# Altium footprint library ModulebitV0_41.PcbLib: 31 footprints (part 1 of 2)
Each footprint in its own frame and in the unit in brackets; x right, y up, seen from the top. Pads: shape width x height; smd on the part's side, far side on the other; paste and mask are expansions set on the pad; w line width, h text height; cw(c..) or ccw(c..) is an arc to the next point about the centre after c.
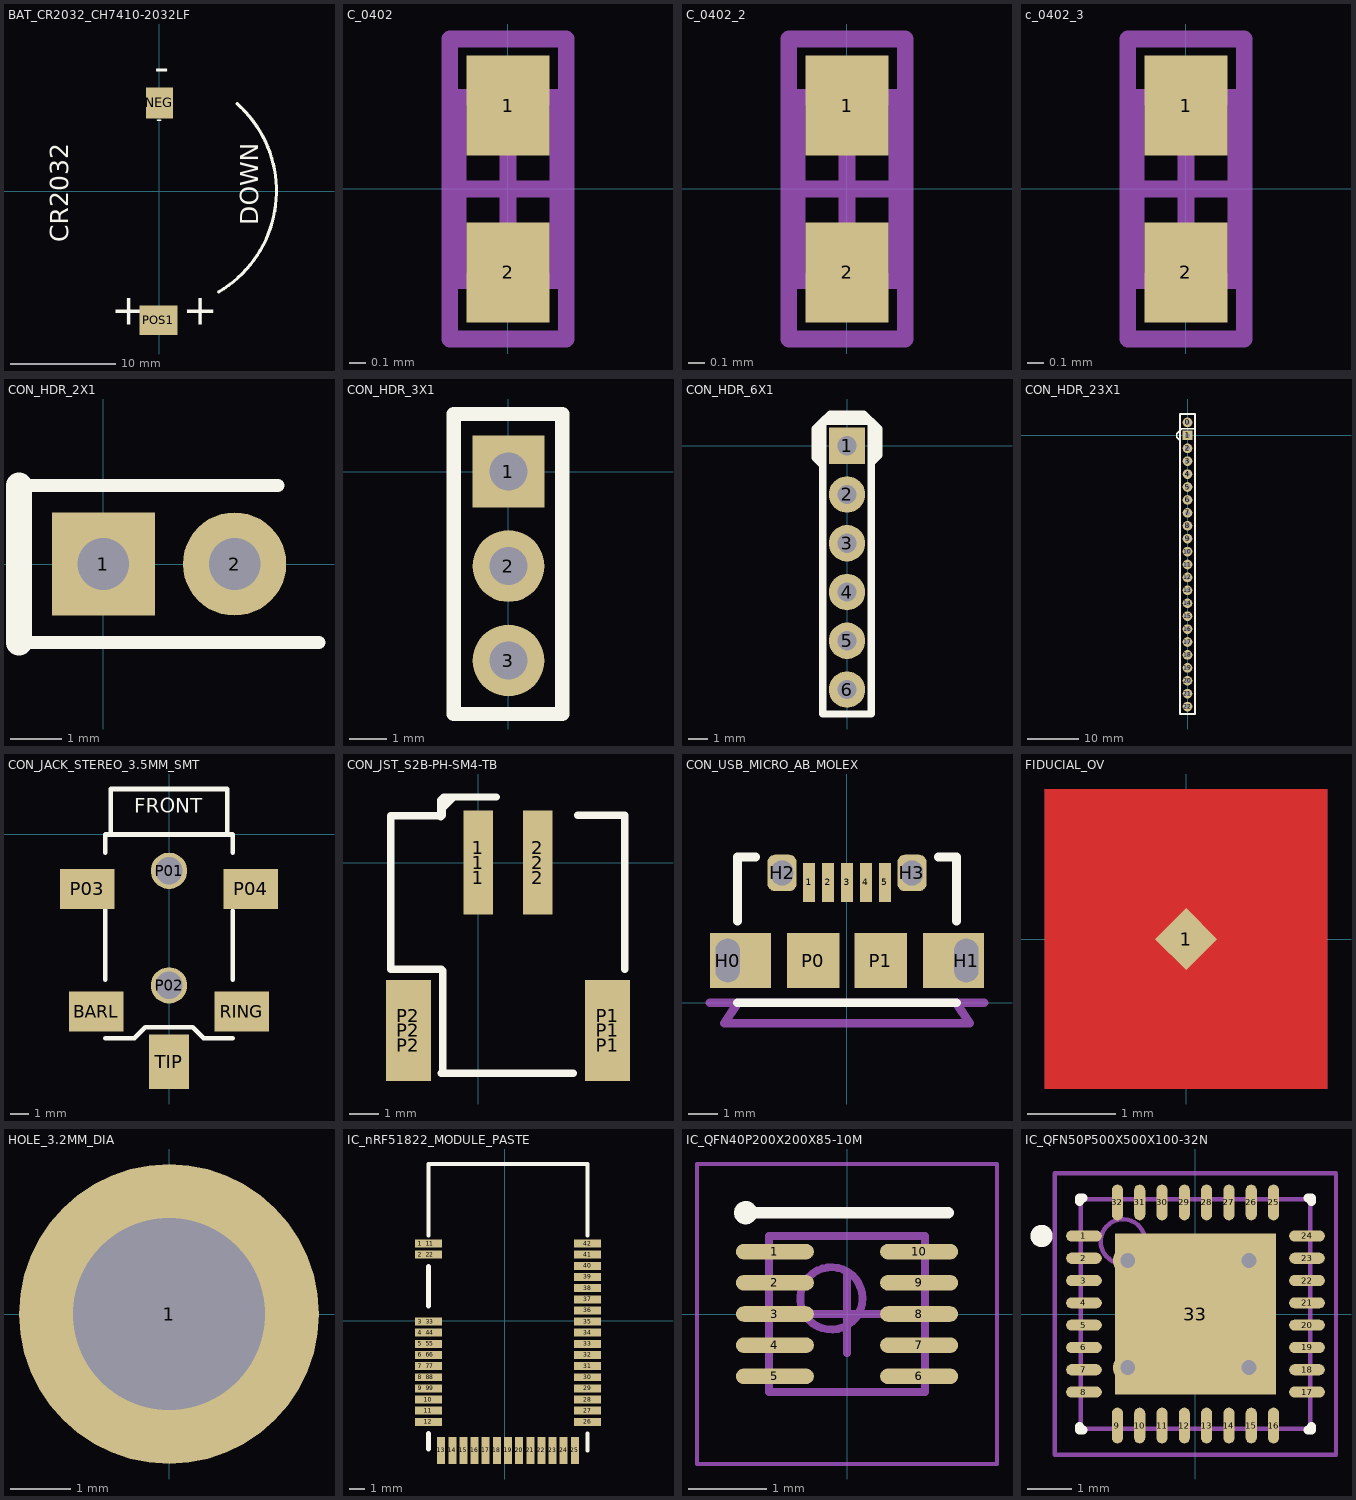
[diagram p0: the footprints below, top view; thin cyan lines are the x and y axes]

## BAT_CR2032_CH7410-2032LF [mm]
pads (2):
  rect 2.6x3 smd paste-2: NEG(0,8.4)
  rect 3.6x2.8 smd: POS1(-0.1,-12.3)
Top Overlay:
  lines w0.305: 5.649,-9.613 ccw(c0,0) 7.383,8.355
  text "-" at -0.3,5.9 h2
  text "+" at 2.2,-13.7 h5
  text "-" at -0.5,9.5 h5
  text "+" at -4.6,-13.7 h5
  text "CR2032" at -8.1,-4.9 h3
  text "DOWN" at 9.97,-3.234 h3
3D body "User Library-bat_holder_ch7410_2032.STEP": height 5.4, standoff 0, extent -8,-13.4 8,10.852

## C_0402 [mm]
pads (2):
  rect 0.5x0.6 smd: 1(0,0.5) 2(0,-0.5)
Mechanical 13:
  lines w0.1: -0.3,-0.55 -0.3,0.55 0.3,0.55 0.3,-0.55 -0.3,-0.55
Mechanical 15:
  lines w0.1: -0.3,0 0.3,0 ; 0,-0.3 0,0.3 ; -0.35,-0.9 -0.35,0.9 0.35,0.9 0.35,-0.9 -0.35,-0.9
3D body "User Library-0402C.step": height 0.36, standoff 0, extent -0.265,-0.5 0.265,0.5

## C_0402_2 [mm]
pads (2):
  rect 0.5x0.6 smd: 1(0,0.5) 2(0,-0.5)
Mechanical 13:
  lines w0.1: -0.3,-0.55 -0.3,0.55 0.3,0.55 0.3,-0.55 -0.3,-0.55
Mechanical 15:
  lines w0.1: -0.3,0 0.3,0 ; 0,-0.3 0,0.3 ; -0.35,-0.9 -0.35,0.9 0.35,0.9 0.35,-0.9 -0.35,-0.9
3D body "User Library-0402C.step": height 0.36, standoff 0, extent -0.265,-0.5 0.265,0.5

## c_0402_3 [mm]
pads (2):
  rect 0.5x0.6 smd: 1(0,0.5) 2(0,-0.5)
Mechanical 13:
  lines w0.1: -0.3,-0.55 0.3,-0.55 0.3,0.55 -0.3,0.55 -0.3,-0.55
Mechanical 15:
  lines w0.1: -0.3,0 0.3,0 ; 0,-0.3 0,0.3 ; -0.35,-0.9 0.35,-0.9 0.35,0.9 -0.35,0.9 -0.35,-0.9
3D body "User Library-0402C.step": height 0.36, standoff 0, extent -0.265,-0.5 0.265,0.5

## CON_HDR_2X1 [mm]
pads (2):
  rect 2x2 hole 1: 1(0,0)
  round 2 hole 1: 2(2.54,0)
Top Overlay:
  lines w0.254: -1.635,-1.524 4.175,-1.524 ; -1.635,1.524 3.378,1.524
  lines w0.5: -1.635,-1.524 -1.635,1.524
3D body "1x2HDR.stp": height 8.41, standoff -2.52, extent -1.27,-1.268 3.81,1.272

## CON_HDR_3X1 [mm]
pads (3):
  rect 1.9x1.9 hole 1: 1(0,0)
  round 1.9 hole 1: 2(0,-2.498) 3(0,-4.995)
Top Overlay:
  lines w0.381: -1.448,-6.409 -1.448,1.524 1.422,1.524 1.422,-6.409 -1.448,-6.409
3D body "1x2HDR.stp": height 8.41, standoff -2.52, extent -1.268,-6.35 1.272,-1.27
3D body "1x2HDR.stp": height 8.41, standoff -2.52, extent -1.268,-3.81 1.272,1.27

## CON_HDR_6X1 [mm]
pads (6):
  rect 1.9x1.9 hole 1: 1(0,0)
  round 1.9 hole 1: 2(0,-2.54) 3(0,-5.08) 4(0,-7.62) 5(0,-10.16) 6(0,-12.7)
Top Overlay:
  lines w0.381: -1.27,-1.016 -1.651,-0.635 -1.651,0.889 -1.27,1.27 ; 1.27,-0.889 1.651,-0.508 1.651,0.889 0.889,1.651 -0.889,1.651 -1.27,1.27 ; -1.27,1.27 1.27,1.27 1.27,-13.97 -1.27,-13.97 -1.27,1.27
3D body "1x2HDR.stp": height 8.41, standoff -2.52, extent -1.268,-13.928 1.272,-8.848
3D body "1x2HDR.stp": height 8.41, standoff -2.52, extent -1.268,-8.89 1.272,-3.81
3D body "1x2HDR.stp": height 8.41, standoff -2.52, extent -1.268,-3.81 1.272,1.27

## CON_HDR_23X1 [mm]
pads (23):
  round 1.9 hole 1: 0(0,2.54) 2(0,-2.54) 3(0,-5.08) 4(0,-7.62) 5(0,-10.16) 6(0,-12.7) 7(0,-15.24) 8(0,-17.78) 9(0,-20.32) 10(0,-22.86) 11(0,-25.4) 12(0,-27.94) 13(0,-30.48) 14(0,-33.02) 15(0,-35.56) 16(0,-38.1) 17(0,-40.64) 18(0,-43.18) 19(0,-45.72) 20(0,-48.26) 21(0,-50.8) 22(0,-53.34)
  rect 1.9x1.9 hole 1: 1(0,0)
Top Overlay:
  lines w0.254: -1.4,-1.1 -2.1,-0.4 -2.1,0.3 -1.1,1.3 0.7,1.3 1.3,1.3
  lines w0.381: -1.5,-49.72 -1.5,-29.996 ; -1.5,-54.8 -1.5,-9.676 -1.5,4.2 1.5,4.2 1.5,-54.8 -1.5,-54.8
3D body "1x2HDR.stp": height 8.41, standoff -2.52, extent -1.268,-1.27 1.272,3.81
3D body "1x2HDR.stp": height 8.41, standoff -2.52, extent -1.268,-54.61 1.272,-49.53
3D body "1x2HDR.stp": height 8.41, standoff -2.52, extent -1.268,-3.81 1.272,1.27
3D body "1x2HDR.stp": height 8.41, standoff -2.52, extent -1.268,-8.89 1.272,-3.81
3D body "1x2HDR.stp": height 8.41, standoff -2.52, extent -1.27,-13.97 1.27,-8.89
3D body "1x2HDR.stp": height 8.41, standoff -2.52, extent -1.268,-19.05 1.272,-13.97
3D body "1x2HDR.stp": height 8.41, standoff -2.52, extent -1.268,-24.13 1.272,-19.05
3D body "1x2HDR.stp": height 8.41, standoff -2.52, extent -1.268,-29.21 1.272,-24.13
3D body "1x2HDR.stp": height 8.41, standoff -2.52, extent -1.268,-49.53 1.272,-44.45
3D body "1x2HDR.stp": height 8.41, standoff -2.52, extent -1.268,-44.45 1.272,-39.37
3D body "1x2HDR.stp": height 8.41, standoff -2.52, extent -1.268,-39.37 1.272,-34.29
3D body "1x2HDR.stp": height 8.41, standoff -2.52, extent -1.27,-34.29 1.27,-29.21

## CON_JACK_STEREO_3.5MM_SMT [mm]
pads (7):
  rect 3x2.2 smd: BARL(-4,-9.75) P03(-4.5,-3) P04(4.5,-3) RING(4,-9.75)
  round 2 hole 1.5: P01(0,-2) P02(0,-8.3)
  rect 2.2x3 smd: TIP(0,-12.5)
Top Overlay:
  lines w0.254: -3.5,-11.2 -1.9,-11.2 -1.3,-10.6 1.3,-10.6 1.9,-11.2 3.5,-11.2 ; -3.5,-8 -3.5,-3.9 ; -3.5,-1 -3.5,0 3.5,0 3.5,-1 ; -3.2,0 -3.2,2.5 3.2,2.5 3.2,0 ; 3.5,-8 3.5,-4.2
  text "FRONT" at -1.9,1.2 h0.8
3D body: height 5.99, standoff 0.01, extent -2.976,-0.2 3,2.5
3D body: height 4.75, standoff 1.25, extent -1.65,-0.225 1.836,2.675
3D body: height 6, standoff 0, extent -3.5,-11 3.5,0
3D body "Lumberg_1503_03.stp": height 6, standoff -1.2, extent -5.1,-13.3 5.1,2.7

## CON_JST_S2B-PH-SM4-TB [mm]
pads (12):
  oval 1x2 smd: 1(0,-0.5) 1(0,0.5) 2(2,-0.5) 2(2,0.5)
  rect 1x3.5 smd: 1(0,0) 2(2,0)
  oval 1.5x2 smd: P1(4.35,-6.15) P1(4.35,-5.15) P2(-2.35,-6.15) P2(-2.35,-5.15)
  rect 1.5x3.4 smd: P1(4.35,-5.65) P2(-2.35,-5.65)
Top Overlay:
  lines w0.25: -2.896,-3.581 -1.245,-3.581 -1.194,-3.632 -1.194,-7.036 ; -1.27,1.549 -1.27,2.108 -1.168,2.21 0.61,2.21 ; -1.219,1.6 -1.219,1.829 -0.864,2.184
  lines w0.254: -2.946,-3.581 -2.946,1.575 -1.321,1.575 ; -1.245,-7.087 3.2,-7.087 ; 3.353,1.6 4.928,1.6 4.928,-3.581
3D body "S2B-PH-SM4-TB.STEP": height 5.5, standoff -0.1, extent -2.972,-7.043 4.928,1.557

## CON_USB_MICRO_AB_MOLEX [mm]
pads (11):
  rect 0.4x1.35 smd: 1(-1.3,4.125) 2(-0.65,4.125) 3(0,4.125) 4(0.65,4.125) 5(1.3,4.125)
  rect 2.1x1.9 hole 0.83 slot 1.5 at 90 deg copper offset 0.44,0: H0(-4.09,1.45)
  rect 2.1x1.9 hole 0.83 slot 1.5 at 90 deg copper offset -0.44,0: H1(4.09,1.45)
  rrect50% 1x1.25 / inner rrect50% 1.15x1.25 / far side rrect50% 1.15x1.25 hole 0.75 slot 0.85 at 90 deg: H2(-2.225,4.45) H3(2.225,4.45)
  rect 1.8x1.9 smd: P0(-1.15,1.45) P1(1.15,1.45)
Top Overlay:
  lines w0.3: -3.75,0 3.75,0 ; -3.75,2.8 -3.75,5 -3.125,5 ; 3.125,5 3.75,5 3.75,2.8
Top Paste:
  rectangle: 2.6,0.5 3.7,2.4
  rectangle: -3.7,0.5 -2.6,2.4
Mechanical 1:
  lines w0.3: -4.7,0 4.7,0 ; -4.2,-0.7 4.2,-0.7 3.75,0 -3.75,0 -4.2,-0.7
  text "Overhang" at -1.5,-0.45 h0.3
3D body "475890001.stp": height 2.76, standoff -0.55, extent -4.35,-1.175 4.3,4.719

## FIDUCIAL_OV [mm]
pads (1):
  rect 0.5x0.5 smd rot 45 paste-1 mask+0.2: 1(0,0)
Top Layer:
  pour cut-out: -1.6,-0.1 -1.6,-1.7 1.6,-1.7 1.6,1.7 -1.6,1.7
  pour cut-out: 153 vertices and 0 holes, not listed, extent -1,-1 1,1
Bottom Layer:
  pour cut-out: -1.6,-0.1 -1.6,-1.7 1.6,-1.7 1.6,1.7 -1.6,1.7
Top Solder:
  region: -1.6,1.7 1.6,1.7 1.6,-1.7 -1.6,-1.7

## HOLE_3.2MM_DIA [mm]
pads (1):
  round 5 hole 3.2: 1(0,0)

## IC_nRF51822_MODULE_PASTE [mm]
pads (126):
  round 0.5 smd: 1(-5.291,4.849) 1(-4.591,4.849) 2(-5.291,4.149) 2(-4.591,4.149) 3(-5.291,-0.051) 3(-4.591,-0.051) 4(-5.291,-0.751) 4(-4.591,-0.751) 5(-5.291,-1.451) 5(-4.591,-1.451) 6(-5.291,-2.151) 6(-4.591,-2.151) 7(-5.291,-2.851) 7(-4.591,-2.851) 8(-5.291,-3.551) 8(-4.591,-3.551) 9(-5.291,-4.251) 9(-4.591,-4.251) 10(-5.291,-4.951) 10(-4.591,-4.951) 11(-5.291,-5.651) 11(-4.591,-5.651) 12(-5.291,-6.351) 12(-4.591,-6.351) 13(-3.991,-8.651) 13(-3.991,-7.851) 14(-3.291,-8.651) 14(-3.291,-7.851) 15(-2.591,-8.651) 15(-2.591,-7.851) 16(-1.891,-7.851) 16(-1.891,-8.651) 17(-1.191,-8.651) 17(-1.191,-7.851) 18(-0.491,-8.651) 18(-0.491,-7.851) 19(0.209,-8.651) 19(0.209,-7.851) 20(0.909,-8.651) 20(0.909,-7.851) 21(1.609,-7.851) 21(1.609,-8.651) 22(2.309,-8.651) 22(2.309,-7.851) 23(3.009,-8.651) 23(3.009,-7.851) 24(3.709,-7.851) 24(3.709,-8.651) 25(4.409,-8.651) 25(4.409,-7.851) 26(5.009,-6.351) 26(5.709,-6.351) 27(5.009,-5.651) 27(5.709,-5.651) 28(5.009,-4.951) 28(5.709,-4.951) 29(5.009,-4.251) 29(5.709,-4.251) 30(5.009,-3.551) 30(5.709,-3.551) 31(5.009,-2.851) 31(5.709,-2.851) 32(5.009,-2.151) 32(5.709,-2.151) 33(5.009,-1.451) 33(5.709,-1.451) 34(5.009,-0.751) 34(5.709,-0.751) 35(5.009,-0.051) 35(5.709,-0.051) 36(5.009,0.649) 36(5.709,0.649) 37(5.009,1.349) 37(5.709,1.349) 38(5.009,2.049) 38(5.709,2.049) 39(5.009,2.749) 39(5.709,2.749) 40(5.009,3.449) 40(5.709,3.449) 41(5.009,4.149) 41(5.709,4.149) 42(5.009,4.849) 42(5.709,4.849)
  rect 1.7x0.5 smd: 1(-4.791,4.849) 2(-4.791,4.149) 3(-4.791,-0.051) 4(-4.791,-0.751) 5(-4.791,-1.451) 6(-4.791,-2.151) 7(-4.791,-2.851) 8(-4.791,-3.551) 9(-4.791,-4.251) 10(-4.791,-4.951) 11(-4.791,-5.651) 12(-4.791,-6.351) 26(5.209,-6.351) 27(5.209,-5.651) 28(5.209,-4.951) 29(5.209,-4.251) 30(5.209,-3.551) 31(5.209,-2.851) 32(5.209,-2.151) 33(5.209,-1.451) 34(5.209,-0.751) 35(5.209,-0.051) 36(5.209,0.649) 37(5.209,1.349) 38(5.209,2.049) 39(5.209,2.749) 40(5.209,3.449) 41(5.209,4.149) 42(5.209,4.849)
  rect 0.5x1.7 smd: 13(-3.991,-8.151) 14(-3.291,-8.151) 15(-2.591,-8.151) 16(-1.891,-8.151) 17(-1.191,-8.151) 18(-0.491,-8.151) 19(0.209,-8.151) 20(0.909,-8.151) 21(1.609,-8.151) 22(2.309,-8.151) 23(3.009,-8.151) 24(3.709,-8.151) 25(4.409,-8.151)
Top Overlay:
  lines w0.254: -4.791,5.349 -4.791,9.849 5.21,9.849 5.21,5.349 ; 5.21,-8.151 5.21,-7.076
  lines w0.305: -4.791,-8.076 -4.791,-7.076 ; -4.791,0.924 -4.791,3.424
3D body "Raytac-MDBT40.step": height 3.2, standoff 0, extent -4.891,-8.176 5.109,9.824

## IC_QFN40P200X200X85-10M [mm]
pads (10):
  oval 1x0.2 smd: 1(-0.925,0.8) 2(-0.925,0.4) 3(-0.925,0) 4(-0.925,-0.4) 5(-0.925,-0.8) 6(0.925,-0.8) 7(0.925,-0.4) 8(0.925,0) 9(0.925,0.4) 10(0.925,0.8)
Top Overlay:
  circle w0.1: c-1.3,1.3 r0.1
  lines w0.152: -1.3,1.3 1.3,1.3
Mechanical 13:
  circle w0.1: c-0.2,0.2 r0.4
  lines w0.1: -1,-1 1,-1 1,1 -1,1 -1,-1
Mechanical 15:
  lines w0.05: -1.925,-1.925 1.925,-1.925 1.925,1.925 -1.925,1.925 -1.925,-1.925
  lines w0.1: -0.5,0 0.5,0 ; 0,-0.5 0,0.5
3D body: height 0.85, standoff 0.02, extent -1,-1 1,1

## IC_QFN50P500X500X100-32N [mm]
pads (33):
  oval 0.8x0.25 smd: 1(-2.5,1.75) 2(-2.5,1.25) 3(-2.5,0.75) 4(-2.5,0.25) 5(-2.5,-0.25) 6(-2.5,-0.75) 7(-2.5,-1.25) 8(-2.5,-1.75) 17(2.5,-1.75) 18(2.5,-1.25) 19(2.5,-0.75) 20(2.5,-0.25) 21(2.5,0.25) 22(2.5,0.75) 23(2.5,1.25) 24(2.5,1.75)
  oval 0.25x0.8 smd: 9(-1.75,-2.5) 10(-1.25,-2.5) 11(-0.75,-2.5) 12(-0.25,-2.5) 13(0.25,-2.5) 14(0.75,-2.5) 15(1.25,-2.5) 16(1.75,-2.5) 25(1.75,2.5) 26(1.25,2.5) 27(0.75,2.5) 28(0.25,2.5) 29(-0.25,2.5) 30(-0.75,2.5) 31(-1.25,2.5) 32(-1.75,2.5)
  rect 3.6x3.6 smd: 33(0,0)
via 1.2,1.2 diameter 0.66 hole 0.33
via -1.517,1.199 diameter 0.66 hole 0.33
via 1.2,-1.2 diameter 0.66 hole 0.33
via -1.517,-1.201 diameter 0.66 hole 0.33
Top Overlay:
  circle w0.25: c-3.45,1.75 r0.125
  lines w0.2: -2.6,-2.525 -2.6,-2.6 -2.525,-2.6 ; -2.6,2.525 -2.6,2.6 -2.525,2.6 ; 2.525,-2.6 2.6,-2.6 2.6,-2.525 ; 2.525,2.6 2.6,2.6 2.6,2.525
Mechanical 13:
  circle w0.1: c-1.625,1.625 r0.5
  lines w0.1: -2.575,-2.575 -2.575,2.575 2.575,2.575 2.575,-2.575 -2.575,-2.575
Mechanical 15:
  lines w0.1: -0.5,0 0.5,0 ; 0,-0.5 0,0.5 ; -3.15,-3.15 -3.15,3.15 3.15,3.15 3.15,-3.15 -3.15,-3.15
3D body "User Library-QFN-32-5x5 - EQ.step": height 0.85, standoff 0, extent -2.5,-2.5 2.5,2.5